# Altium schematic symbol library BTS3160D.SchLib: 1 symbol
Pins are listed as number, name and electrical type; pins without a type are passive.

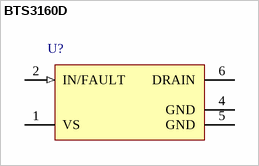
[diagram p0: symbol BTS3160D]

## BTS3160D
designator U?
10 mOhm Smart Low Side Power Switch, 40 V VDS, 7.8 A ID, -40 to 150 degC, PG-TO252-5-13, Reel, Green; Manufacturer: Infineon; PartNumber: BTS3160D; Channels: 1; Green: TRUE; Group: HITFET; ID: 7.1 A; ID(nom): 7.8 A; ID(lim) (min): 70 A; ISC (max): 130 A; RDS (on)(max): 10 mOhm; ton (max): 250 us; VDS (max): 40 V; DatasheetVersion: Rev. 1.1; PackageVersion: Feb-08; PackageReference: PG-TO252-5-13; PackageDescription: 5-Pin Plastic (Green) Transistor Single Outline Package, 6.5 x 6.12 mm Body, 1.14 mm Pitch; Supplier 1: Digi-Key; Supplier Part Number 1: BTS3160DTR-ND; Supplier 2: Digi-Key; Supplier Part Number 2: BTS3160DCT-ND; Supplier 3: Digi-Key; Supplier Part Number 3: BTS3160DDKR-ND; Supplier 4: Mouser; Supplier Part Number 4: 726-BTS3160D; Halogen-free: TRUE; Packing: Reel; toff (max): 250 us; Mounting Technology: Surface Mount; ComponentLink1Description: Manufacturer URL; ComponentLink1URL: http://www.infineon.com/; ComponentLink2Description: Datasheet; ComponentLink2URL: http://www.infineon.com/dgdl/BTS3160_DS_11.pdf?folderId=db3a3043163797a6011667aa084c0e01&fileId=db3a3043271faefd01274cf870e05d2e&location=en.Products.Automotive_ICs.Smart_High-_and_Low-Side_Switches.HITFET___TEMPFET__-_Smart_Low-Side_Switches.DATASHEET.BTS3160_DS_11.pdf; ComponentLink3Description: Package Specification; ComponentLink3URL: http://www.infineon.com/dgdl/BTS3160_DS_11.pdf?folderId=db3a3043163797a6011667aa084c0e01&fileId=db3a3043271faefd01274cf870e05d2e&location=en.Products.Automotive_ICs.Smart_High-_and_Low-Side_Switches.HITFET___TEMPFET__-_Smart_Low-Side_Switches.DATASHEET.BTS3160_DS_11.pdf
footprint INF-PG-TO252-5-13_N (DPAK, 5-Leads, Body 6.5x6.12mm, Pitch 1.14mm, IPC Medium Density)
footprint INF-PG-TO252-5-13_L (DPAK, 5-Leads, Body 6.5x6.12mm, Pitch 1.14mm, IPC High Density)
footprint INF-PG-TO252-5-13_M (DPAK, 5-Leads, Body 6.5x6.12mm, Pitch 1.14mm, IPC Low Density)
pins: 1 VS (power) "Supply Voltage; Connected to Battery Voltage with Reverse polarity protection", 2 IN/FAULT (in) "Control Input and Status Feedback; Digital input 3.3 V or 5 V logic.", 4 GND (power) "Ground; Signal ground, Pin 4 and 5 must be externally shorted", 5 GND (power) "Ground; Signal ground, Pin 4 and 5 must be externally shorted", 6 DRAIN (power) "Drain output; Protected low side power output channel"